# Altium footprint library PcbLibrary.PcbLib: 3 footprints
Each footprint in its own frame and in the unit in brackets; x right, y up, seen from the top. Pads: shape width x height; smd on the part's side, far side on the other; paste and mask are expansions set on the pad; w line width, h text height; cw(c..) or ccw(c..) is an arc to the next point about the centre after c.
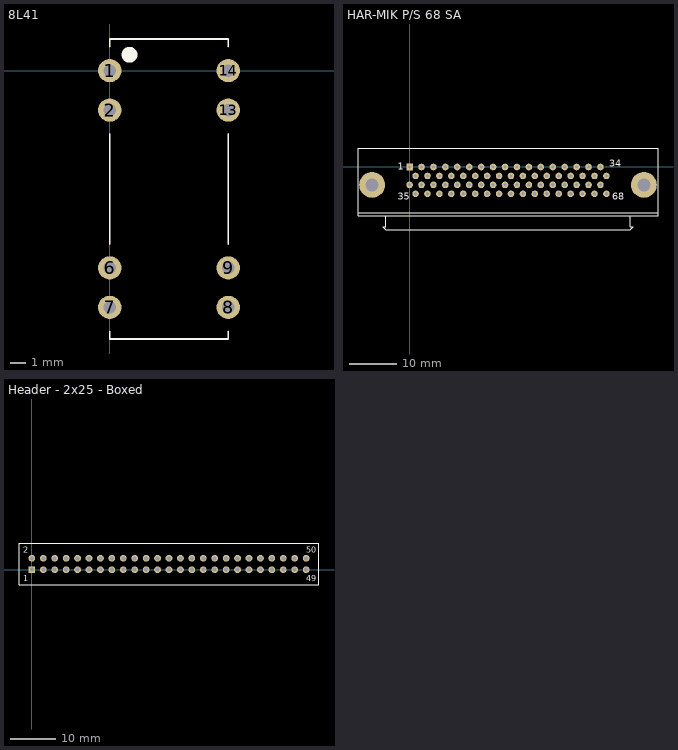
[diagram p0: the footprints below, top view; thin cyan lines are the x and y axes]

## 8L41 [mm] "Reed Relais, 2.54mm"
pads (8):
  round 1.5 hole 0.8: 1(0,0) 2(0,-2.54) 6(0,-12.7) 7(0,-15.24) 8(7.62,-15.24) 9(7.62,-12.7) 13(7.62,-2.54) 14(7.62,0)
Top Overlay:
  circle w0.508: c1.27,1.016 r0.254
  lines w0.1: 0,-16.764 0,-17.272 7.62,-17.272 7.62,-16.764 ; 0,-11.176 0,-4.064 ; 0,1.524 0,2.032 7.62,2.032 7.62,1.524 ; 7.62,-11.176 7.62,-4.064

## HAR-MIK P/S 68 SA [mm] "HAR-MIK P/S Connector, 68 Pin, 90 deg"
height 10.5
pads (70):
  rect 1.4x1.4 hole 0.7: 1(0,0)
  round 1.4 hole 0.7: 2(1.27,-1.905) 3(2.54,0) 4(3.81,-1.905) 5(5.08,0) 6(6.35,-1.905) 7(7.62,0) 8(8.89,-1.905) 9(10.16,0) 10(11.43,-1.905) 11(12.7,0) 12(13.97,-1.905) 13(15.24,0) 14(16.51,-1.905) 15(17.78,0) 16(19.05,-1.905) 17(20.32,0) 18(21.59,-1.905) 19(22.86,0) 20(24.13,-1.905) 21(25.4,0) 22(26.67,-1.905) 23(27.94,0) 24(29.21,-1.905) 25(30.48,0) 26(31.75,-1.905) 27(33.02,0) 28(34.29,-1.905) 29(35.56,0) 30(36.83,-1.905) 31(38.1,0) 32(39.37,-1.905) 33(40.64,0) 34(41.91,-1.905) 35(0,-3.81) 36(1.27,-5.715) 37(2.54,-3.81) 38(3.81,-5.715) 39(5.08,-3.81) 40(6.35,-5.715) 41(7.62,-3.81) 42(8.89,-5.715) 43(10.16,-3.81) 44(11.43,-5.715) 45(12.7,-3.81) 46(13.97,-5.715) 47(15.24,-3.81) 48(16.51,-5.715) 49(17.78,-3.81) 50(19.05,-5.715) 51(20.32,-3.81) 52(21.59,-5.715) 53(22.86,-3.81) 54(24.13,-5.715) 55(25.4,-3.81) 56(26.67,-5.715) 57(27.94,-3.81) 58(29.21,-5.715) 59(30.48,-3.81) 60(31.75,-5.715) 61(33.02,-3.81) 62(34.29,-5.715) 63(35.56,-3.81) 64(36.83,-5.715) 65(38.1,-3.81) 66(39.37,-5.715) 67(40.64,-3.81) 68(41.91,-5.715)
  round 5.5 hole 2.8: ""(-7.985,-3.81) ""(49.895,-3.81)
Top Overlay:
  lines w0.2: -10.985,-9.715 52.895,-9.715 ; -5.08,-10.415 -5.08,-12.7 -5.715,-12.7 -5.085,-13.33 -5.085,-13.335 46.995,-13.335 ; 46.995,-13.33 47.625,-12.7 46.995,-12.7 46.995,-10.42 ; -10.985,-10.415 -10.985,3.965 52.895,3.965 52.895,-10.415 -10.985,-10.415
  text "1" at -2.54,-0.635 h1.5
  text "34" at 42.545,0 h1.5
  text "68" at 43.18,-6.985 h1.5
  text "35" at -2.54,-6.985 h1.5

## Header - 2x25 - Boxed [mm] "Connector; Header; 2x25"
height 5
pads (50):
  rect 1.5x1.5 hole 0.9: 1(0,0)
  round 1.5 hole 0.9: 2(0,2.54) 3(2.54,0) 4(2.54,2.54) 5(5.08,0) 6(5.08,2.54) 7(7.62,0) 8(7.62,2.54) 9(10.16,0) 10(10.16,2.54) 11(12.7,0) 12(12.7,2.54) 13(15.24,0) 14(15.24,2.54) 15(17.78,0) 16(17.78,2.54) 17(20.32,0) 18(20.32,2.54) 19(22.86,0) 20(22.86,2.54) 21(25.4,0) 22(25.4,2.54) 23(27.94,0) 24(27.94,2.54) 25(30.48,0) 26(30.48,2.54) 27(33.02,0) 28(33.02,2.54) 29(35.56,0) 30(35.56,2.54) 31(38.1,0) 32(38.1,2.54) 33(40.64,0) 34(40.64,2.54) 35(43.18,0) 36(43.18,2.54) 37(45.72,0) 38(45.72,2.54) 39(48.26,0) 40(48.26,2.54) 41(50.8,0) 42(50.8,2.54) 43(53.34,0) 44(53.34,2.54) 45(55.88,0) 46(55.88,2.54) 47(58.42,0) 48(58.42,2.54) 49(60.96,0) 50(60.96,2.54)
Top Overlay:
  lines w0.2: -2.86,-3.33 63.82,-3.33 63.82,5.87 -2.86,5.87 -2.86,-3.33
  text "50" at 60.96,3.81 h1.27
  text "49" at 60.96,-2.54 h1.27
  text "1" at -1.905,-2.54 h1.27
  text "2" at -1.905,3.81 h1.27